# Altium integrated library Connectors Library.IntLib: 40 symbols
Pins are listed as number, name and electrical type; pins without a type are passive.

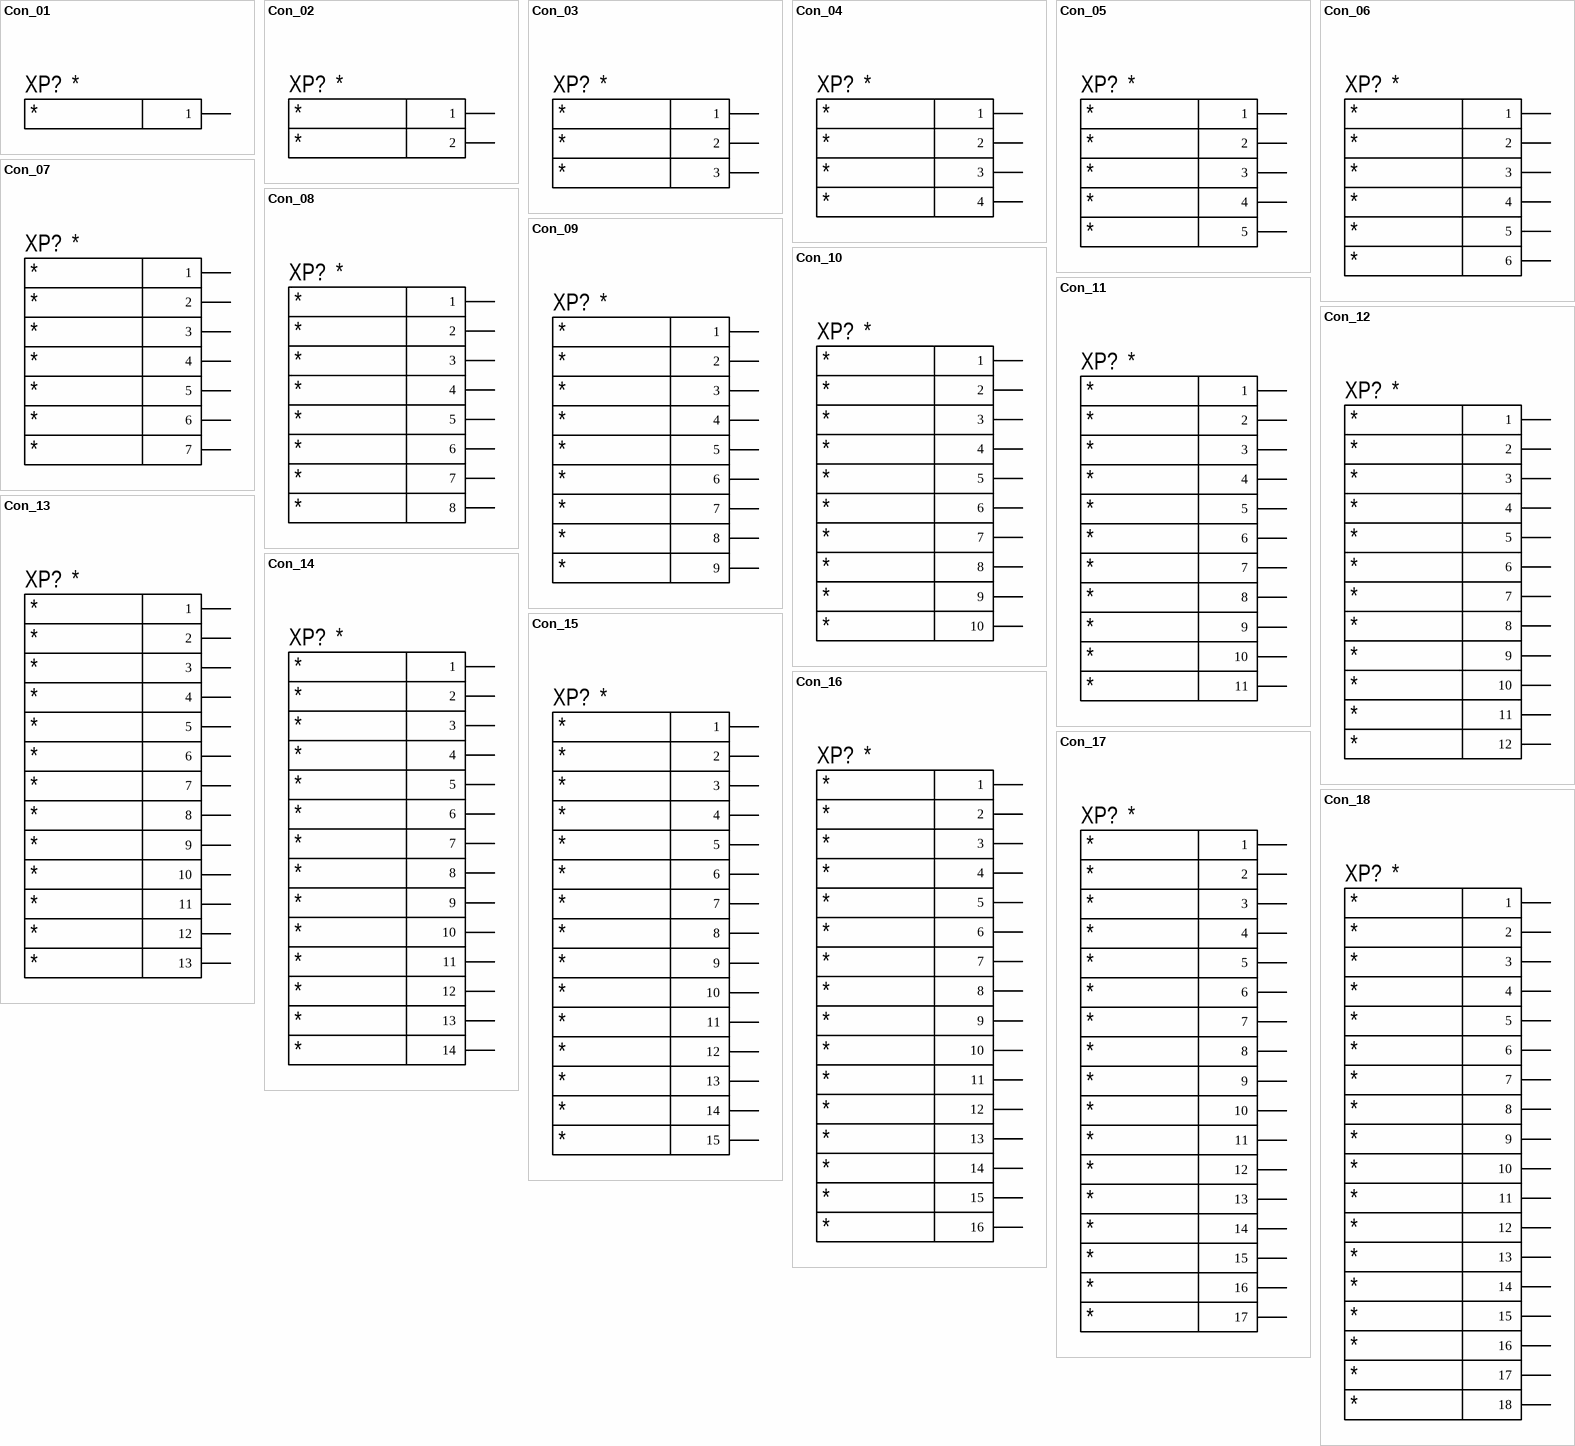
[diagram p0: symbols Con_01 to Con_18]

## Con_01
designator XP?
Pin 1 Name: *; Name Connector: *
pins: 1

## Con_02
designator XP?
Pin 2 Name: *; Pin 1 Name: *; Name Connector: *
pins: 1, 2

## Con_03
designator XP?
Pin 3 Name: *; Pin 2 Name: *; Pin 1 Name: *; Name Connector: *
pins: 1, 2, 3

## Con_04
designator XP?
Pin 4 Name: *; Pin 3 Name: *; Pin 2 Name: *; Pin 1 Name: *; Name Connector: *
pins: 1, 2, 3, 4

## Con_05
designator XP?
Pin 5 Name: *; Pin 4 Name: *; Pin 3 Name: *; Pin 2 Name: *; Pin 1 Name: *; Name Connector: *
pins: 1, 2, 3, 4, 5

## Con_06
designator XP?
Pin 6 Name: *; Pin 5 Name: *; Pin 4 Name: *; Pin 3 Name: *; Pin 2 Name: *; Pin 1 Name: *; Name Connector: *
pins: 1, 2, 3, 4, 5, 6

## Con_07
designator XP?
Pin 7 Name: *; Pin 6 Name: *; Pin 5 Name: *; Pin 4 Name: *; Pin 3 Name: *; Pin 2 Name: *; Pin 1 Name: *; Name Connector: *
pins: 1, 2, 3, 4, 5, 6, 7

## Con_08
designator XP?
Pin 8 Name: *; Pin 7 Name: *; Pin 6 Name: *; Pin 5 Name: *; Pin 4 Name: *; Pin 3 Name: *; Pin 2 Name: *; Pin 1 Name: *; Name Connector: *
pins: 1, 2, 3, 4, 5, 6, 7, 8

## Con_09
designator XP?
Pin 9 Name: *; Pin 8 Name: *; Pin 7 Name: *; Pin 6 Name: *; Pin 5 Name: *; Pin 4 Name: *; Pin 3 Name: *; Pin 2 Name: *; Pin 1 Name: *; Name Connector: *
pins: 1, 2, 3, 4, 5, 6, 7, 8, 9

## Con_10
designator XP?
Pin 10 Name: *; Pin 9 Name: *; Pin 8 Name: *; Pin 7 Name: *; Pin 6 Name: *; Pin 5 Name: *; Pin 4 Name: *; Pin 3 Name: *; Pin 2 Name: *; Pin 1 Name: *; Name Connector: *
pins: 1, 2, 3, 4, 5, 6, 7, 8, 9, 10

## Con_11
designator XP?
Pin 11 Name: *; Pin 10 Name: *; Pin 9 Name: *; Pin 8 Name: *; Pin 7 Name: *; Pin 6 Name: *; Pin 5 Name: *; Pin 4 Name: *; Pin 3 Name: *; Pin 2 Name: *; Pin 1 Name: *; Name Connector: *
pins: 1, 2, 3, 4, 5, 6, 7, 8, 9, 10, 11

## Con_12
designator XP?
Pin 12 Name: *; Pin 11 Name: *; Pin 10 Name: *; Pin 9 Name: *; Pin 8 Name: *; Pin 7 Name: *; Pin 6 Name: *; Pin 5 Name: *; Pin 4 Name: *; Pin 3 Name: *; Pin 2 Name: *; Pin 1 Name: *; Name Connector: *
pins: 1, 2, 3, 4, 5, 6, 7, 8, 9, 10, 11, 12

## Con_13
designator XP?
Pin 13 Name: *; Pin 12 Name: *; Pin 11 Name: *; Pin 10 Name: *; Pin 9 Name: *; Pin 8 Name: *; Pin 7 Name: *; Pin 6 Name: *; Pin 5 Name: *; Pin 4 Name: *; Pin 3 Name: *; Pin 2 Name: *; Pin 1 Name: *; Name Connector: *
pins: 1, 2, 3, 4, 5, 6, 7, 8, 9, 10, 11, 12, 13

## Con_14
designator XP?
Pin 14 Name: *; Pin 13 Name: *; Pin 12 Name: *; Pin 11 Name: *; Pin 10 Name: *; Pin 9 Name: *; Pin 8 Name: *; Pin 7 Name: *; Pin 6 Name: *; Pin 5 Name: *; Pin 4 Name: *; Pin 3 Name: *; Pin 2 Name: *; Pin 1 Name: *; Name Connector: *
pins: 1, 2, 3, 4, 5, 6, 7, 8, 9, 10, 11, 12, 13, 14

## Con_15
designator XP?
Pin 15 Name: *; Pin 14 Name: *; Pin 13 Name: *; Pin 12 Name: *; Pin 11 Name: *; Pin 10 Name: *; Pin 9 Name: *; Pin 8 Name: *; Pin 7 Name: *; Pin 6 Name: *; Pin 5 Name: *; Pin 4 Name: *; Pin 3 Name: *; Pin 2 Name: *; Pin 1 Name: *; Name Connector: *
pins: 1, 2, 3, 4, 5, 6, 7, 8, 9, 10, 11, 12, 13, 14, 15

## Con_16
designator XP?
Pin 16 Name: *; Pin 15 Name: *; Pin 14 Name: *; Pin 13 Name: *; Pin 12 Name: *; Pin 11 Name: *; Pin 10 Name: *; Pin 9 Name: *; Pin 8 Name: *; Pin 7 Name: *; Pin 6 Name: *; Pin 5 Name: *; Pin 4 Name: *; Pin 3 Name: *; Pin 2 Name: *; Pin 1 Name: *; Name Connector: *
pins: 1, 2, 3, 4, 5, 6, 7, 8, 9, 10, 11, 12, 13, 14, 15, 16

## Con_17
designator XP?
Pin 17 Name: *; Pin 16 Name: *; Pin 15 Name: *; Pin 14 Name: *; Pin 13 Name: *; Pin 12 Name: *; Pin 11 Name: *; Pin 10 Name: *; Pin 9 Name: *; Pin 8 Name: *; Pin 7 Name: *; Pin 6 Name: *; Pin 5 Name: *; Pin 4 Name: *; Pin 3 Name: *; Pin 2 Name: *; Pin 1 Name: *; Name Connector: *
pins: 1, 2, 3, 4, 5, 6, 7, 8, 9, 10, 11, 12, 13, 14, 15, 16, 17

## Con_18
designator XP?
Pin 18 Name: *; Pin 17 Name: *; Pin 16 Name: *; Pin 15 Name: *; Pin 14 Name: *; Pin 13 Name: *; Pin 12 Name: *; Pin 11 Name: *; Pin 10 Name: *; Pin 9 Name: *; Pin 8 Name: *; Pin 7 Name: *; Pin 6 Name: *; Pin 5 Name: *; Pin 4 Name: *; Pin 3 Name: *; Pin 2 Name: *; Pin 1 Name: *; Name Connector: *
pins: 1, 2, 3, 4, 5, 6, 7, 8, 9, 10, 11, 12, 13, 14, 15, 16, 17, 18

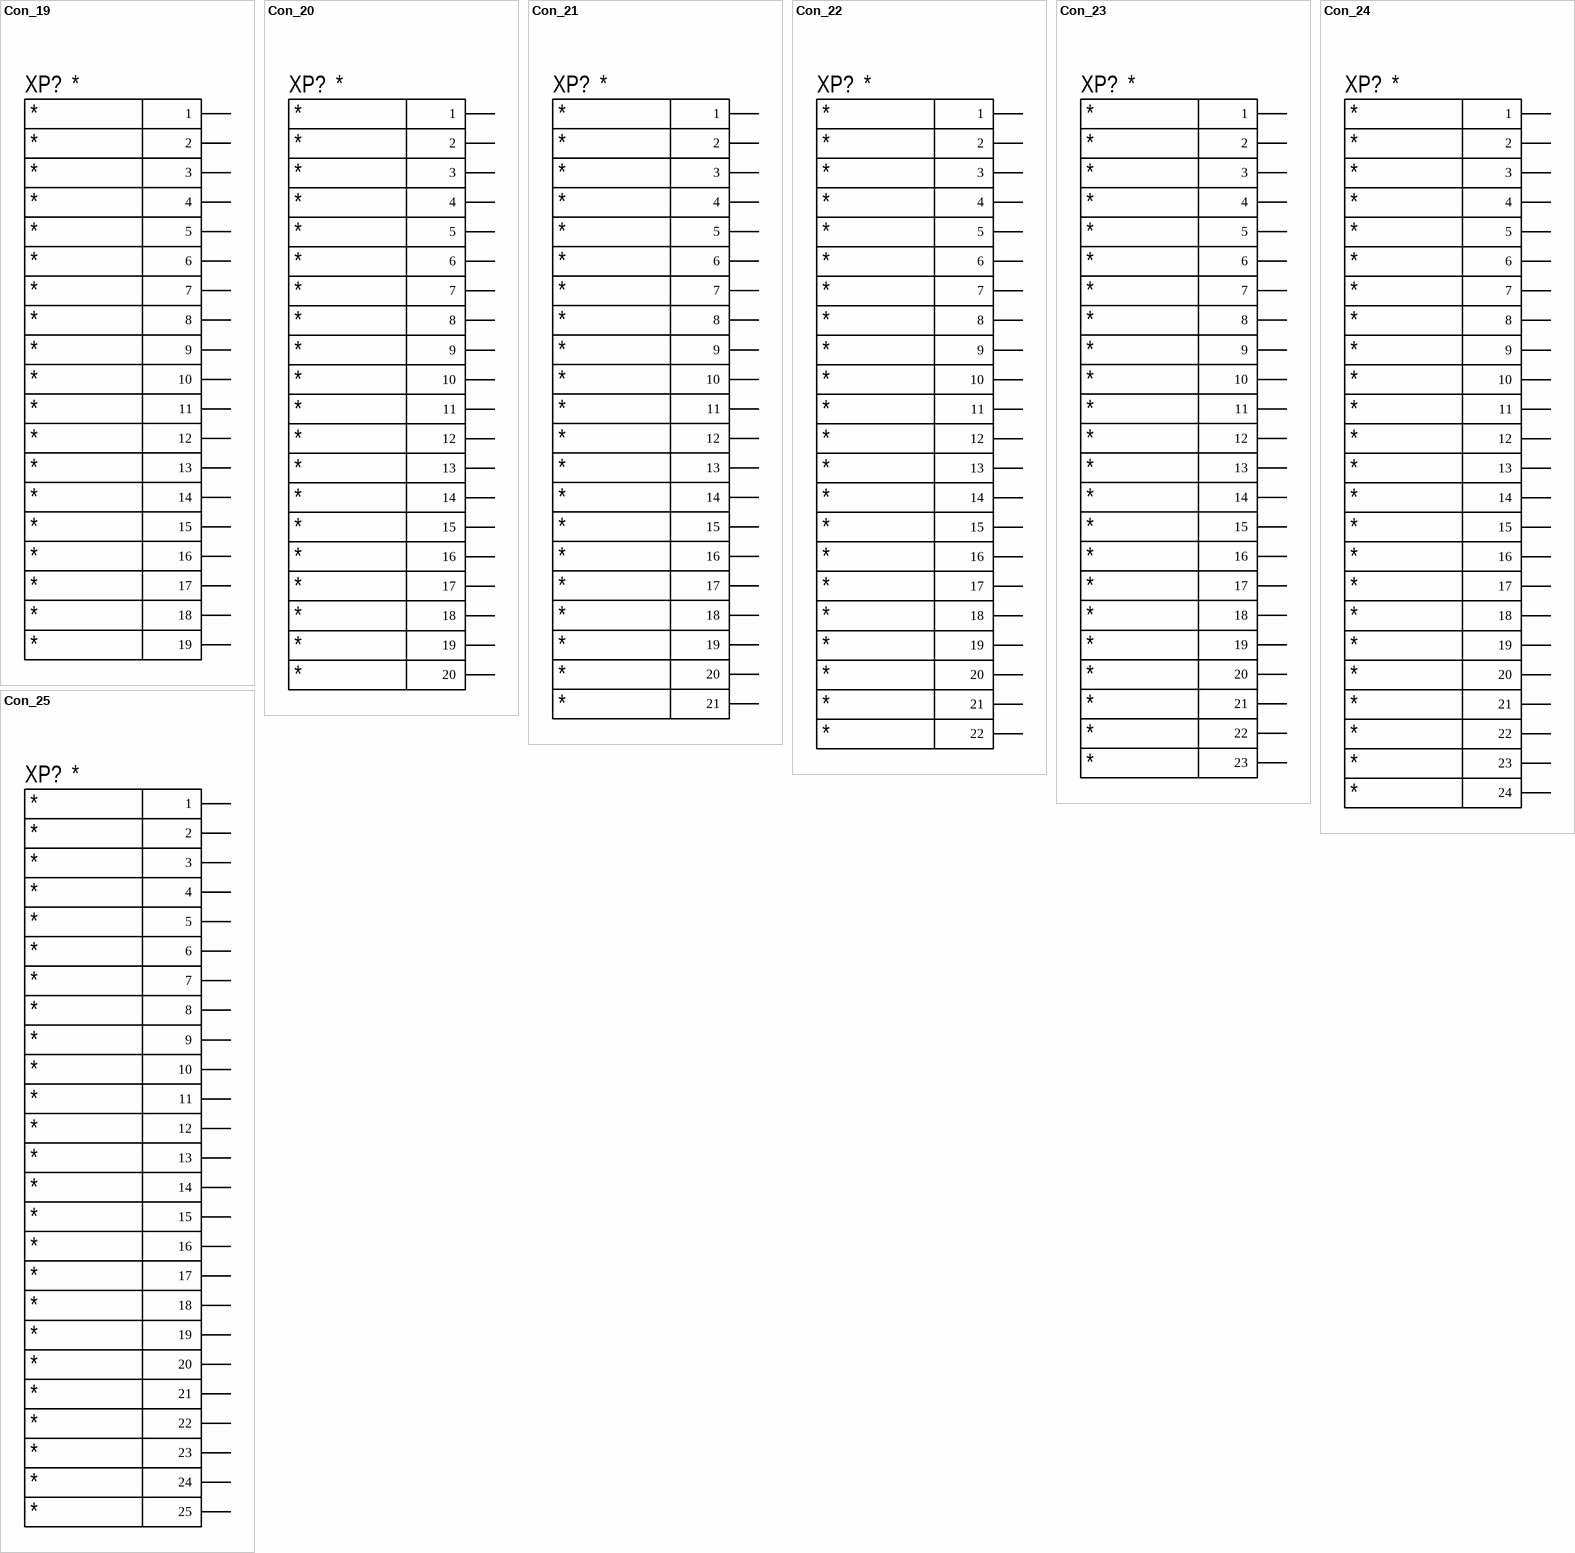
[diagram p1: symbols Con_19 to Con_25]

## Con_19
designator XP?
Pin 19 Name: *; Pin 18 Name: *; Pin 17 Name: *; Pin 16 Name: *; Pin 15 Name: *; Pin 14 Name: *; Pin 13 Name: *; Pin 12 Name: *; Pin 11 Name: *; Pin 10 Name: *; Pin 9 Name: *; Pin 8 Name: *; Pin 7 Name: *; Pin 6 Name: *; Pin 5 Name: *; Pin 4 Name: *; Pin 3 Name: *; Pin 2 Name: *; Pin 1 Name: *; Name Connector: *
pins: 1, 2, 3, 4, 5, 6, 7, 8, 9, 10, 11, 12, 13, 14, 15, 16, 17, 18, 19

## Con_20
designator XP?
Pin 20 Name: *; Pin 19 Name: *; Pin 18 Name: *; Pin 17 Name: *; Pin 16 Name: *; Pin 15 Name: *; Pin 14 Name: *; Pin 13 Name: *; Pin 12 Name: *; Pin 11 Name: *; Pin 10 Name: *; Pin 9 Name: *; Pin 8 Name: *; Pin 7 Name: *; Pin 6 Name: *; Pin 5 Name: *; Pin 4 Name: *; Pin 3 Name: *; Pin 2 Name: *; Pin 1 Name: *; Name Connector: *
pins: 1, 2, 3, 4, 5, 6, 7, 8, 9, 10, 11, 12, 13, 14, 15, 16, 17, 18, 19, 20

## Con_21
designator XP?
Pin 21 Name: *; Pin 20 Name: *; Pin 19 Name: *; Pin 18 Name: *; Pin 17 Name: *; Pin 16 Name: *; Pin 15 Name: *; Pin 14 Name: *; Pin 13 Name: *; Pin 12 Name: *; Pin 11 Name: *; Pin 10 Name: *; Pin 9 Name: *; Pin 8 Name: *; Pin 7 Name: *; Pin 6 Name: *; Pin 5 Name: *; Pin 4 Name: *; Pin 3 Name: *; Pin 2 Name: *; Pin 1 Name: *; Name Connector: *
pins: 1, 2, 3, 4, 5, 6, 7, 8, 9, 10, 11, 12, 13, 14, 15, 16, 17, 18, 19, 20, 21

## Con_22
designator XP?
Pin 22 Name: *; Pin 21 Name: *; Pin 20 Name: *; Pin 19 Name: *; Pin 18 Name: *; Pin 17 Name: *; Pin 16 Name: *; Pin 15 Name: *; Pin 14 Name: *; Pin 13 Name: *; Pin 12 Name: *; Pin 11 Name: *; Pin 10 Name: *; Pin 9 Name: *; Pin 8 Name: *; Pin 7 Name: *; Pin 6 Name: *; Pin 5 Name: *; Pin 4 Name: *; Pin 3 Name: *; Pin 2 Name: *; Pin 1 Name: *; Name Connector: *
pins: 1, 2, 3, 4, 5, 6, 7, 8, 9, 10, 11, 12, 13, 14, 15, 16, 17, 18, 19, 20, 21, 22

## Con_23
designator XP?
Pin 23 Name: *; Pin 22 Name: *; Pin 21 Name: *; Pin 20 Name: *; Pin 19 Name: *; Pin 18 Name: *; Pin 17 Name: *; Pin 16 Name: *; Pin 15 Name: *; Pin 14 Name: *; Pin 13 Name: *; Pin 12 Name: *; Pin 11 Name: *; Pin 10 Name: *; Pin 9 Name: *; Pin 8 Name: *; Pin 7 Name: *; Pin 6 Name: *; Pin 5 Name: *; Pin 4 Name: *; Pin 3 Name: *; Pin 2 Name: *; Pin 1 Name: *; Name Connector: *
pins: 1, 2, 3, 4, 5, 6, 7, 8, 9, 10, 11, 12, 13, 14, 15, 16, 17, 18, 19, 20, 21, 22, 23

## Con_24
designator XP?
Pin 24 Name: *; Pin 23 Name: *; Pin 22 Name: *; Pin 21 Name: *; Pin 20 Name: *; Pin 19 Name: *; Pin 18 Name: *; Pin 17 Name: *; Pin 16 Name: *; Pin 15 Name: *; Pin 14 Name: *; Pin 13 Name: *; Pin 12 Name: *; Pin 11 Name: *; Pin 10 Name: *; Pin 9 Name: *; Pin 8 Name: *; Pin 7 Name: *; Pin 6 Name: *; Pin 5 Name: *; Pin 4 Name: *; Pin 3 Name: *; Pin 2 Name: *; Pin 1 Name: *; Name Connector: *
pins: 1, 2, 3, 4, 5, 6, 7, 8, 9, 10, 11, 12, 13, 14, 15, 16, 17, 18, 19, 20, 21, 22, 23, 24

## Con_25
designator XP?
Pin 25 Name: *; Pin 24 Name: *; Pin 23 Name: *; Pin 22 Name: *; Pin 21 Name: *; Pin 20 Name: *; Pin 19 Name: *; Pin 18 Name: *; Pin 17 Name: *; Pin 16 Name: *; Pin 15 Name: *; Pin 14 Name: *; Pin 13 Name: *; Pin 12 Name: *; Pin 11 Name: *; Pin 10 Name: *; Pin 9 Name: *; Pin 8 Name: *; Pin 7 Name: *; Pin 6 Name: *; Pin 5 Name: *; Pin 4 Name: *; Pin 3 Name: *; Pin 2 Name: *; Pin 1 Name: *; Name Connector: *
pins: 1, 2, 3, 4, 5, 6, 7, 8, 9, 10, 11, 12, 13, 14, 15, 16, 17, 18, 19, 20, 21, 22, 23, 24, 25

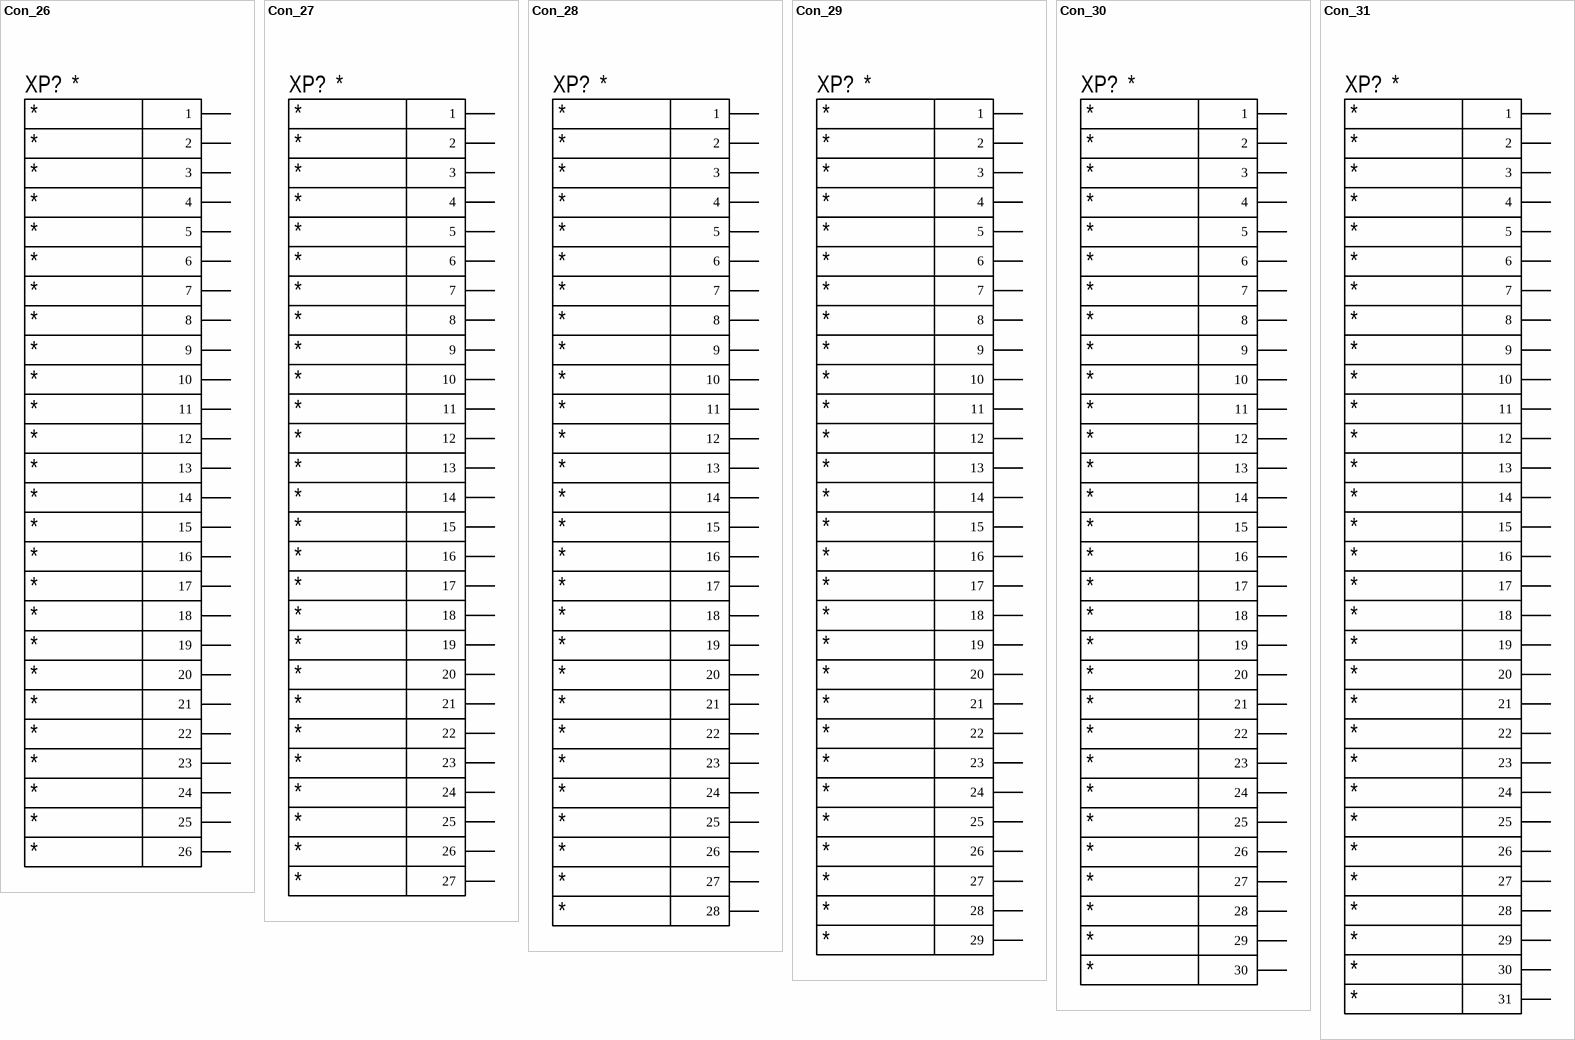
[diagram p2: symbols Con_26 to Con_31]

## Con_26
designator XP?
Pin 25 Name: *; Pin 24 Name: *; Pin 23 Name: *; Pin 22 Name: *; Pin 21 Name: *; Pin 20 Name: *; Pin 19 Name: *; Pin 18 Name: *; Pin 17 Name: *; Pin 16 Name: *; Pin 15 Name: *; Pin 14 Name: *; Pin 13 Name: *; Pin 12 Name: *; Pin 11 Name: *; Pin 10 Name: *; Pin 9 Name: *; Pin 8 Name: *; Pin 7 Name: *; Pin 6 Name: *; Pin 5 Name: *; Pin 4 Name: *; Pin 3 Name: *; Pin 2 Name: *; Pin 1 Name: *; Name Connector: *; Pin 26 Name: *
pins: 1, 2, 3, 4, 5, 6, 7, 8, 9, 10, 11, 12, 13, 14, 15, 16, 17, 18, 19, 20, 21, 22, 23, 24, 25, 26

## Con_27
designator XP?
Pin 25 Name: *; Pin 24 Name: *; Pin 23 Name: *; Pin 22 Name: *; Pin 21 Name: *; Pin 20 Name: *; Pin 19 Name: *; Pin 18 Name: *; Pin 17 Name: *; Pin 16 Name: *; Pin 15 Name: *; Pin 14 Name: *; Pin 13 Name: *; Pin 12 Name: *; Pin 11 Name: *; Pin 10 Name: *; Pin 9 Name: *; Pin 8 Name: *; Pin 7 Name: *; Pin 6 Name: *; Pin 5 Name: *; Pin 4 Name: *; Pin 3 Name: *; Pin 2 Name: *; Pin 1 Name: *; Name Connector: *; Pin 26 Name: *; Pin 27 Name: *
pins: 1, 2, 3, 4, 5, 6, 7, 8, 9, 10, 11, 12, 13, 14, 15, 16, 17, 18, 19, 20, 21, 22, 23, 24, 25, 26, 27

## Con_28
designator XP?
Pin 25 Name: *; Pin 24 Name: *; Pin 23 Name: *; Pin 22 Name: *; Pin 21 Name: *; Pin 20 Name: *; Pin 19 Name: *; Pin 18 Name: *; Pin 17 Name: *; Pin 16 Name: *; Pin 15 Name: *; Pin 14 Name: *; Pin 13 Name: *; Pin 12 Name: *; Pin 11 Name: *; Pin 10 Name: *; Pin 9 Name: *; Pin 8 Name: *; Pin 7 Name: *; Pin 6 Name: *; Pin 5 Name: *; Pin 4 Name: *; Pin 3 Name: *; Pin 2 Name: *; Pin 1 Name: *; Name Connector: *; Pin 26 Name: *; Pin 27 Name: *; Pin 28 Name: *
pins: 1, 2, 3, 4, 5, 6, 7, 8, 9, 10, 11, 12, 13, 14, 15, 16, 17, 18, 19, 20, 21, 22, 23, 24, 25, 26, 27, 28

## Con_29
designator XP?
Pin 25 Name: *; Pin 24 Name: *; Pin 23 Name: *; Pin 22 Name: *; Pin 21 Name: *; Pin 20 Name: *; Pin 19 Name: *; Pin 18 Name: *; Pin 17 Name: *; Pin 16 Name: *; Pin 15 Name: *; Pin 14 Name: *; Pin 13 Name: *; Pin 12 Name: *; Pin 11 Name: *; Pin 10 Name: *; Pin 9 Name: *; Pin 8 Name: *; Pin 7 Name: *; Pin 6 Name: *; Pin 5 Name: *; Pin 4 Name: *; Pin 3 Name: *; Pin 2 Name: *; Pin 1 Name: *; Name Connector: *; Pin 26 Name: *; Pin 27 Name: *; Pin 28 Name: *; Pin 29 Name: *
pins: 1, 2, 3, 4, 5, 6, 7, 8, 9, 10, 11, 12, 13, 14, 15, 16, 17, 18, 19, 20, 21, 22, 23, 24, 25, 26, 27, 28, 29

## Con_30
designator XP?
Pin 25 Name: *; Pin 24 Name: *; Pin 23 Name: *; Pin 22 Name: *; Pin 21 Name: *; Pin 20 Name: *; Pin 19 Name: *; Pin 18 Name: *; Pin 17 Name: *; Pin 16 Name: *; Pin 15 Name: *; Pin 14 Name: *; Pin 13 Name: *; Pin 12 Name: *; Pin 11 Name: *; Pin 10 Name: *; Pin 9 Name: *; Pin 8 Name: *; Pin 7 Name: *; Pin 6 Name: *; Pin 5 Name: *; Pin 4 Name: *; Pin 3 Name: *; Pin 2 Name: *; Pin 1 Name: *; Name Connector: *; Pin 26 Name: *; Pin 27 Name: *; Pin 28 Name: *; Pin 29 Name: *; Pin 30 Name: *
pins: 1, 2, 3, 4, 5, 6, 7, 8, 9, 10, 11, 12, 13, 14, 15, 16, 17, 18, 19, 20, 21, 22, 23, 24, 25, 26, 27, 28, 29, 30

## Con_31
designator XP?
Pin 25 Name: *; Pin 24 Name: *; Pin 23 Name: *; Pin 22 Name: *; Pin 21 Name: *; Pin 20 Name: *; Pin 19 Name: *; Pin 18 Name: *; Pin 17 Name: *; Pin 16 Name: *; Pin 15 Name: *; Pin 14 Name: *; Pin 13 Name: *; Pin 12 Name: *; Pin 11 Name: *; Pin 10 Name: *; Pin 9 Name: *; Pin 8 Name: *; Pin 7 Name: *; Pin 6 Name: *; Pin 5 Name: *; Pin 4 Name: *; Pin 3 Name: *; Pin 2 Name: *; Pin 1 Name: *; Name Connector: *; Pin 26 Name: *; Pin 27 Name: *; Pin 28 Name: *; Pin 29 Name: *; Pin 30 Name: *; Pin 31 Name: *
pins: 1, 2, 3, 4, 5, 6, 7, 8, 9, 10, 11, 12, 13, 14, 15, 16, 17, 18, 19, 20, 21, 22, 23, 24, 25, 26, 27, 28, 29, 30, 31

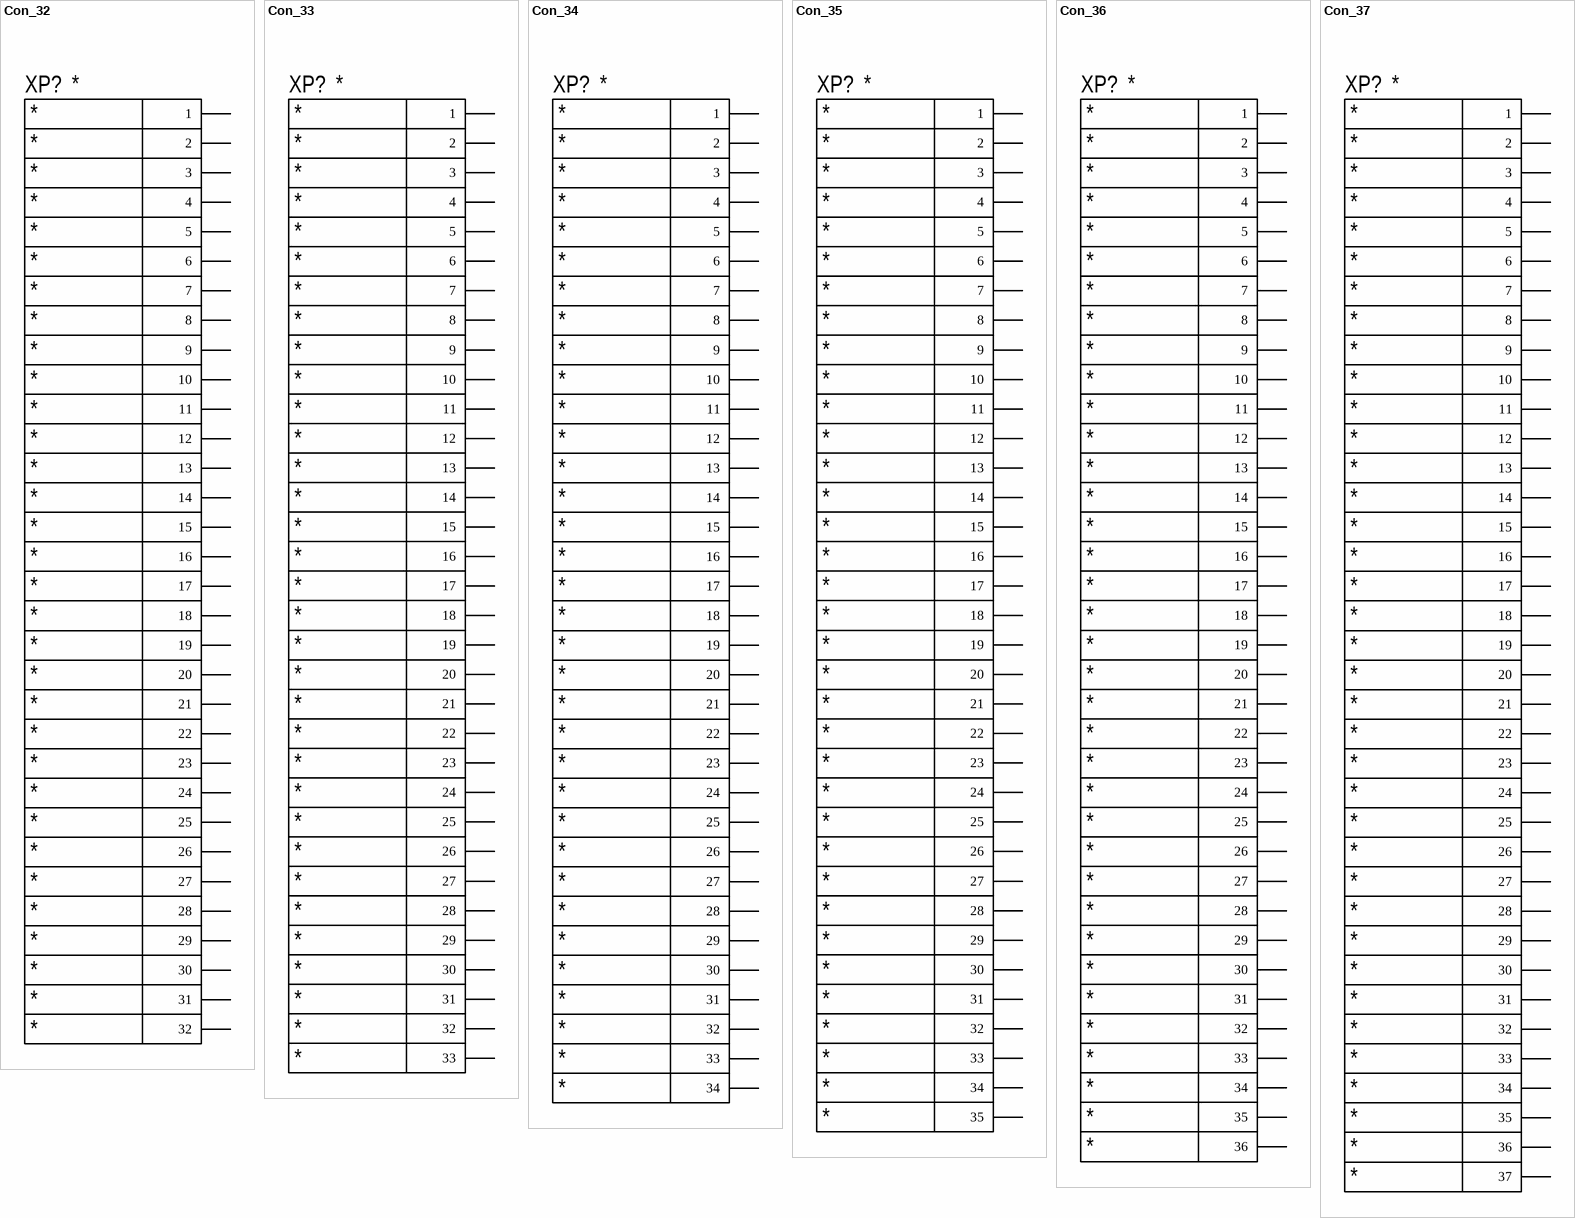
[diagram p3: symbols Con_32 to Con_37]

## Con_32
designator XP?
Pin 25 Name: *; Pin 24 Name: *; Pin 23 Name: *; Pin 22 Name: *; Pin 21 Name: *; Pin 20 Name: *; Pin 19 Name: *; Pin 18 Name: *; Pin 17 Name: *; Pin 16 Name: *; Pin 15 Name: *; Pin 14 Name: *; Pin 13 Name: *; Pin 12 Name: *; Pin 11 Name: *; Pin 10 Name: *; Pin 9 Name: *; Pin 8 Name: *; Pin 7 Name: *; Pin 6 Name: *; Pin 5 Name: *; Pin 4 Name: *; Pin 3 Name: *; Pin 2 Name: *; Pin 1 Name: *; Name Connector: *; Pin 26 Name: *; Pin 27 Name: *; Pin 28 Name: *; Pin 29 Name: *; Pin 30 Name: *; Pin 31 Name: *; Pin 32 Name: *
pins: 1, 2, 3, 4, 5, 6, 7, 8, 9, 10, 11, 12, 13, 14, 15, 16, 17, 18, 19, 20, 21, 22, 23, 24, 25, 26, 27, 28, 29, 30, 31, 32

## Con_33
designator XP?
Pin 25 Name: *; Pin 24 Name: *; Pin 23 Name: *; Pin 22 Name: *; Pin 21 Name: *; Pin 20 Name: *; Pin 19 Name: *; Pin 18 Name: *; Pin 17 Name: *; Pin 16 Name: *; Pin 15 Name: *; Pin 14 Name: *; Pin 13 Name: *; Pin 12 Name: *; Pin 11 Name: *; Pin 10 Name: *; Pin 9 Name: *; Pin 8 Name: *; Pin 7 Name: *; Pin 6 Name: *; Pin 5 Name: *; Pin 4 Name: *; Pin 3 Name: *; Pin 2 Name: *; Pin 1 Name: *; Name Connector: *; Pin 26 Name: *; Pin 27 Name: *; Pin 28 Name: *; Pin 29 Name: *; Pin 30 Name: *; Pin 31 Name: *; Pin 32 Name: *; Pin 33 Name: *
pins: 1, 2, 3, 4, 5, 6, 7, 8, 9, 10, 11, 12, 13, 14, 15, 16, 17, 18, 19, 20, 21, 22, 23, 24, 25, 26, 27, 28, 29, 30, 31, 32, 33

## Con_34
designator XP?
Pin 25 Name: *; Pin 24 Name: *; Pin 23 Name: *; Pin 22 Name: *; Pin 21 Name: *; Pin 20 Name: *; Pin 19 Name: *; Pin 18 Name: *; Pin 17 Name: *; Pin 16 Name: *; Pin 15 Name: *; Pin 14 Name: *; Pin 13 Name: *; Pin 12 Name: *; Pin 11 Name: *; Pin 10 Name: *; Pin 9 Name: *; Pin 8 Name: *; Pin 7 Name: *; Pin 6 Name: *; Pin 5 Name: *; Pin 4 Name: *; Pin 3 Name: *; Pin 2 Name: *; Pin 1 Name: *; Name Connector: *; Pin 26 Name: *; Pin 27 Name: *; Pin 28 Name: *; Pin 29 Name: *; Pin 30 Name: *; Pin 31 Name: *; Pin 32 Name: *; Pin 33 Name: *; Pin 34 Name: *
pins: 1, 2, 3, 4, 5, 6, 7, 8, 9, 10, 11, 12, 13, 14, 15, 16, 17, 18, 19, 20, 21, 22, 23, 24, 25, 26, 27, 28, 29, 30, 31, 32, 33, 34

## Con_35
designator XP?
Pin 25 Name: *; Pin 24 Name: *; Pin 23 Name: *; Pin 22 Name: *; Pin 21 Name: *; Pin 20 Name: *; Pin 19 Name: *; Pin 18 Name: *; Pin 17 Name: *; Pin 16 Name: *; Pin 15 Name: *; Pin 14 Name: *; Pin 13 Name: *; Pin 12 Name: *; Pin 11 Name: *; Pin 10 Name: *; Pin 9 Name: *; Pin 8 Name: *; Pin 7 Name: *; Pin 6 Name: *; Pin 5 Name: *; Pin 4 Name: *; Pin 3 Name: *; Pin 2 Name: *; Pin 1 Name: *; Name Connector: *; Pin 26 Name: *; Pin 27 Name: *; Pin 28 Name: *; Pin 29 Name: *; Pin 30 Name: *; Pin 31 Name: *; Pin 32 Name: *; Pin 33 Name: *; Pin 34 Name: *; Pin 35 Name: *
pins: 1, 2, 3, 4, 5, 6, 7, 8, 9, 10, 11, 12, 13, 14, 15, 16, 17, 18, 19, 20, 21, 22, 23, 24, 25, 26, 27, 28, 29, 30, 31, 32, 33, 34, 35

## Con_36
designator XP?
Pin 25 Name: *; Pin 24 Name: *; Pin 23 Name: *; Pin 22 Name: *; Pin 21 Name: *; Pin 20 Name: *; Pin 19 Name: *; Pin 18 Name: *; Pin 17 Name: *; Pin 16 Name: *; Pin 15 Name: *; Pin 14 Name: *; Pin 13 Name: *; Pin 12 Name: *; Pin 11 Name: *; Pin 10 Name: *; Pin 9 Name: *; Pin 8 Name: *; Pin 7 Name: *; Pin 6 Name: *; Pin 5 Name: *; Pin 4 Name: *; Pin 3 Name: *; Pin 2 Name: *; Pin 1 Name: *; Name Connector: *; Pin 26 Name: *; Pin 27 Name: *; Pin 28 Name: *; Pin 29 Name: *; Pin 30 Name: *; Pin 31 Name: *; Pin 32 Name: *; Pin 33 Name: *; Pin 34 Name: *; Pin 35 Name: *; Pin 36 Name: *
pins: 1, 2, 3, 4, 5, 6, 7, 8, 9, 10, 11, 12, 13, 14, 15, 16, 17, 18, 19, 20, 21, 22, 23, 24, 25, 26, 27, 28, 29, 30, 31, 32, 33, 34, 35, 36

## Con_37
designator XP?
Pin 25 Name: *; Pin 24 Name: *; Pin 23 Name: *; Pin 22 Name: *; Pin 21 Name: *; Pin 20 Name: *; Pin 19 Name: *; Pin 18 Name: *; Pin 17 Name: *; Pin 16 Name: *; Pin 15 Name: *; Pin 14 Name: *; Pin 13 Name: *; Pin 12 Name: *; Pin 11 Name: *; Pin 10 Name: *; Pin 9 Name: *; Pin 8 Name: *; Pin 7 Name: *; Pin 6 Name: *; Pin 5 Name: *; Pin 4 Name: *; Pin 3 Name: *; Pin 2 Name: *; Pin 1 Name: *; Name Connector: *; Pin 26 Name: *; Pin 27 Name: *; Pin 28 Name: *; Pin 29 Name: *; Pin 30 Name: *; Pin 31 Name: *; Pin 32 Name: *; Pin 33 Name: *; Pin 34 Name: *; Pin 35 Name: *; Pin 36 Name: *; Pin 37 Name: *
pins: 1, 2, 3, 4, 5, 6, 7, 8, 9, 10, 11, 12, 13, 14, 15, 16, 17, 18, 19, 20, 21, 22, 23, 24, 25, 26, 27, 28, 29, 30, 31, 32, 33, 34, 35, 36, 37

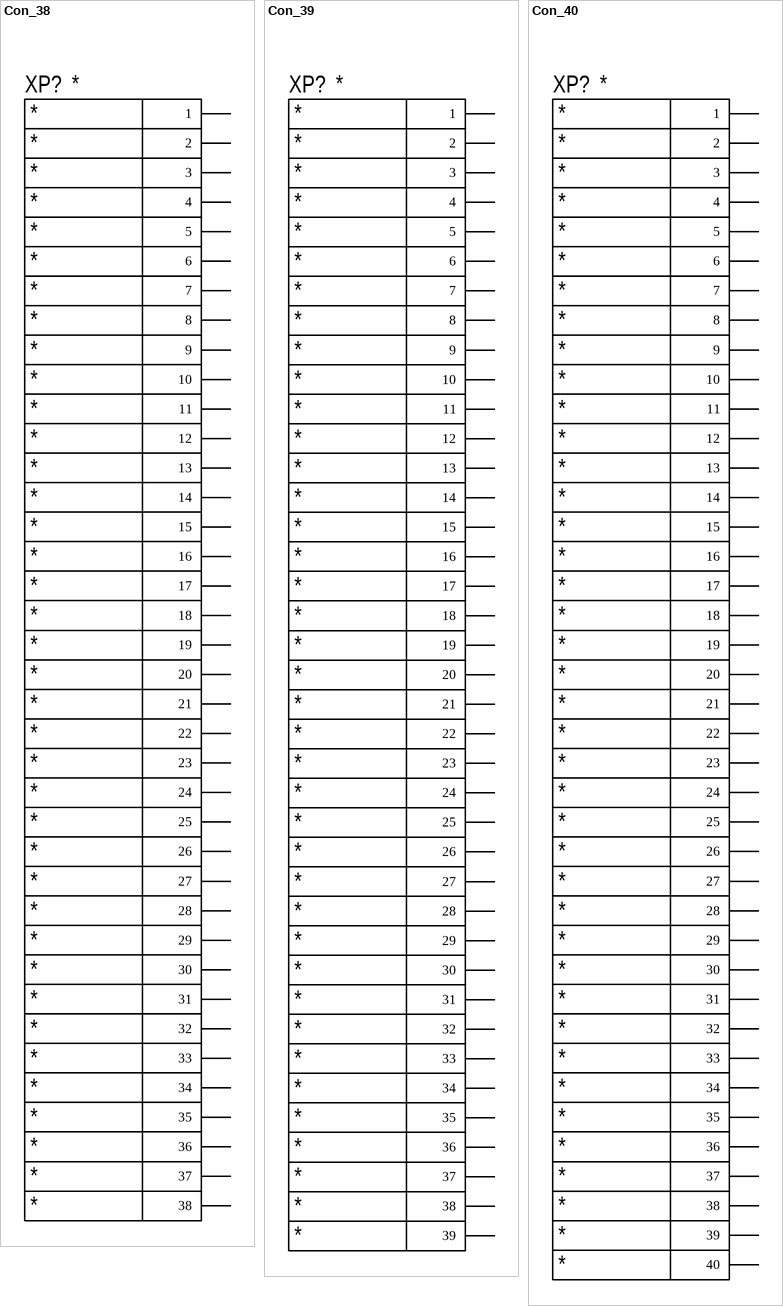
[diagram p4: symbols Con_38 to Con_40]

## Con_38
designator XP?
Pin 25 Name: *; Pin 24 Name: *; Pin 23 Name: *; Pin 22 Name: *; Pin 21 Name: *; Pin 20 Name: *; Pin 19 Name: *; Pin 18 Name: *; Pin 17 Name: *; Pin 16 Name: *; Pin 15 Name: *; Pin 14 Name: *; Pin 13 Name: *; Pin 12 Name: *; Pin 11 Name: *; Pin 10 Name: *; Pin 9 Name: *; Pin 8 Name: *; Pin 7 Name: *; Pin 6 Name: *; Pin 5 Name: *; Pin 4 Name: *; Pin 3 Name: *; Pin 2 Name: *; Pin 1 Name: *; Name Connector: *; Pin 26 Name: *; Pin 27 Name: *; Pin 28 Name: *; Pin 29 Name: *; Pin 30 Name: *; Pin 31 Name: *; Pin 32 Name: *; Pin 33 Name: *; Pin 34 Name: *; Pin 35 Name: *; Pin 36 Name: *; Pin 37 Name: *; Pin 38 Name: *
pins: 1, 2, 3, 4, 5, 6, 7, 8, 9, 10, 11, 12, 13, 14, 15, 16, 17, 18, 19, 20, 21, 22, 23, 24, 25, 26, 27, 28, 29, 30, 31, 32, 33, 34, 35, 36, 37, 38

## Con_39
designator XP?
Pin 25 Name: *; Pin 24 Name: *; Pin 23 Name: *; Pin 22 Name: *; Pin 21 Name: *; Pin 20 Name: *; Pin 19 Name: *; Pin 18 Name: *; Pin 17 Name: *; Pin 16 Name: *; Pin 15 Name: *; Pin 14 Name: *; Pin 13 Name: *; Pin 12 Name: *; Pin 11 Name: *; Pin 10 Name: *; Pin 9 Name: *; Pin 8 Name: *; Pin 7 Name: *; Pin 6 Name: *; Pin 5 Name: *; Pin 4 Name: *; Pin 3 Name: *; Pin 2 Name: *; Pin 1 Name: *; Name Connector: *; Pin 26 Name: *; Pin 27 Name: *; Pin 28 Name: *; Pin 29 Name: *; Pin 30 Name: *; Pin 31 Name: *; Pin 32 Name: *; Pin 33 Name: *; Pin 34 Name: *; Pin 35 Name: *; Pin 36 Name: *; Pin 37 Name: *; Pin 38 Name: *; Pin 39 Name: *
pins: 1, 2, 3, 4, 5, 6, 7, 8, 9, 10, 11, 12, 13, 14, 15, 16, 17, 18, 19, 20, 21, 22, 23, 24, 25, 26, 27, 28, 29, 30, 31, 32, 33, 34, 35, 36, 37, 38, 39

## Con_40
designator XP?
Pin 25 Name: *; Pin 24 Name: *; Pin 23 Name: *; Pin 22 Name: *; Pin 21 Name: *; Pin 20 Name: *; Pin 19 Name: *; Pin 18 Name: *; Pin 17 Name: *; Pin 16 Name: *; Pin 15 Name: *; Pin 14 Name: *; Pin 13 Name: *; Pin 12 Name: *; Pin 11 Name: *; Pin 10 Name: *; Pin 9 Name: *; Pin 8 Name: *; Pin 7 Name: *; Pin 6 Name: *; Pin 5 Name: *; Pin 4 Name: *; Pin 3 Name: *; Pin 2 Name: *; Pin 1 Name: *; Name Connector: *; Pin 26 Name: *; Pin 27 Name: *; Pin 28 Name: *; Pin 29 Name: *; Pin 30 Name: *; Pin 31 Name: *; Pin 32 Name: *; Pin 33 Name: *; Pin 34 Name: *; Pin 35 Name: *; Pin 36 Name: *; Pin 37 Name: *; Pin 38 Name: *; Pin 39 Name: *; Pin 40 Name: *
pins: 1, 2, 3, 4, 5, 6, 7, 8, 9, 10, 11, 12, 13, 14, 15, 16, 17, 18, 19, 20, 21, 22, 23, 24, 25, 26, 27, 28, 29, 30, 31, 32, 33, 34, 35, 36, 37, 38, 39, 40